# EAGLE library part W25Q16JV (library IC & Transistor)
W25Q16JV Serial Flash Memory with Dual/Quad SPI Created by: Wai Weng
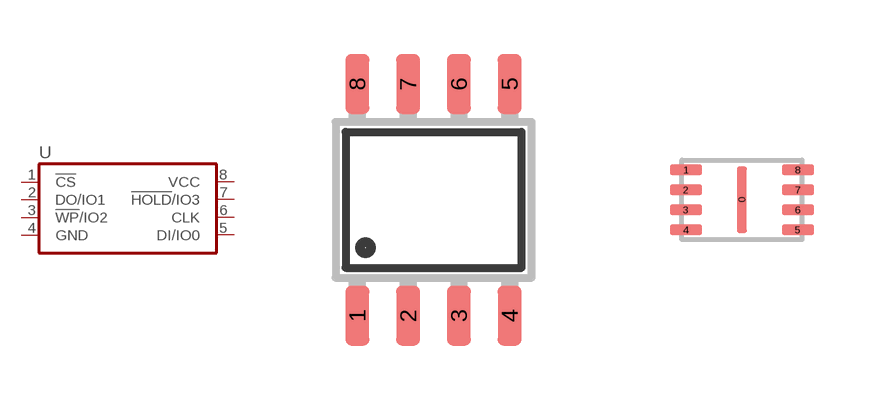
[diagram p97: symbol with the pads of SOIC-08N; footprints SOIC-08N, USON-8]

Designator prefix U

## W25Q16JV_(SN) (DESC: S W25Q16JVSNIQ SO8; MF: Winbond; MPN: W25Q16JVSNIQ)  [SOIC-08N]
1  !CS
2  DO/IO1
3  !WP!/IO2
4  GND
5  DI/IO0
6  CLK
7  !HOLD!/IO3
8  VCC

## W25Q16JV_(UX) (DESC: S W25Q16JVUXIQ USON8; MF: Winbond; MPN: W25Q16JVUXIQ)  [USON-8]
Pads as for SOIC-08N

## Footprint SOIC-08N (pad centres in mm)
Small Outline Integrated Circuit (SOIC) Narrow (JEDEC) SOIC Package Size: 4.9mm x 3.9mm Lead Pitch: 1.27mm
smd 0.6 x 1.5: 1 -1.905,-2.9; 2 -0.635,-2.9; 3 0.635,-2.9; 4 1.905,-2.9; 5 1.905,2.9; 6 0.635,2.9; 7 -0.635,2.9; 8 -1.905,2.9

## Footprint USON-8 (pad centres in mm)
USON-8 Size: 2x3mm Created by: Wai Weng
smd 0.25 x 1.65: 0 0,0
smd 0.8 x 0.27: 1 -1.4,0.75; 2 -1.4,0.25; 3 -1.4,-0.25; 4 -1.4,-0.75; 5 1.4,-0.75; 6 1.4,-0.25; 7 1.4,0.25; 8 1.4,0.75